# EAGLE library part TPS54A24RTWR (library TPS54A24RTWR)
None
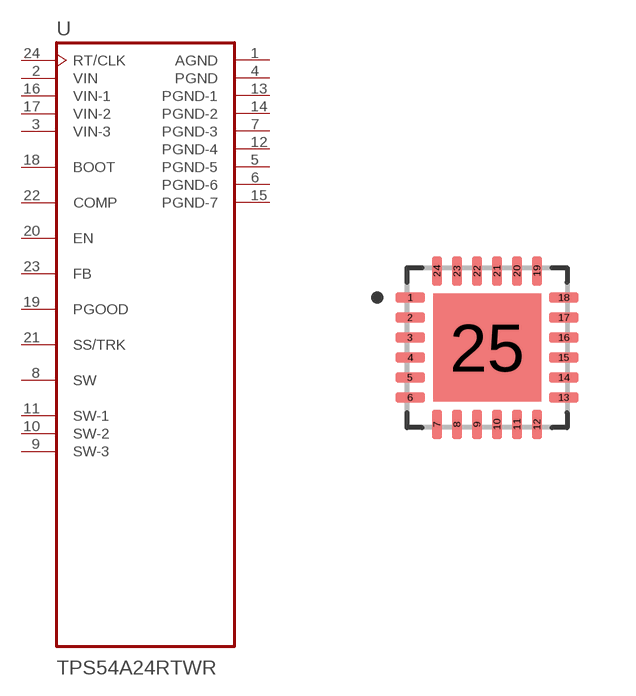
[diagram p0: symbol with the pads of VQFN50P400X400X100-24N; footprint VQFN50P400X400X100-24N]

Designator prefix U

## TPS54A24RTWR (Availability: Unavailable; Description: BSR-CCP; MF: Texas Instruments; MP: TPS54A24RTWR; Package: WQFN-24 Texas Instruments; Price: None)  [VQFN50P400X400X100-24N]
1  AGND  pwr
2  VIN  in
3  VIN-3  in
4  PGND  pwr
5  PGND-5  pwr
6  PGND-6  pwr
7  PGND-3  pwr
8  SW
9  SW-3
10  SW-2
11  SW-1
12  PGND-4  pwr
13  PGND-1  pwr
14  PGND-2  pwr
15  PGND-7  pwr
16  VIN-1  in
17  VIN-2  in
18  BOOT
19  PGOOD
20  EN
21  SS/TRK
22  COMP
23  FB
24  RT/CLK  in

## Footprint VQFN50P400X400X100-24N (pad centres in mm)
smd 0.74 x 0.26: 1 -1.92,1.25; 2 -1.92,0.75; 3 -1.92,0.25; 4 -1.92,-0.25; 5 -1.92,-0.75; 6 -1.92,-1.25; 13 1.92,-1.25; 14 1.92,-0.75; 15 1.92,-0.25; 16 1.92,0.25; 17 1.92,0.75; 18 1.92,1.25
smd 0.26 x 0.74: 7 -1.25,-1.92; 8 -0.75,-1.92; 9 -0.25,-1.92; 10 0.25,-1.92; 11 0.75,-1.92; 12 1.25,-1.92; 19 1.25,1.92; 20 0.75,1.92; 21 0.25,1.92; 22 -0.25,1.92; 23 -0.75,1.92; 24 -1.25,1.92
smd 2.7 x 2.7: 25 0,0